# EAGLE library part CON-OMNETICS-A79016-001 (library con-omnetics)
18 Position Dual Row Male Nano-Miniature (.025″/.64mm) Connector; Featuring 6 Guide Posts Holes and Horizontal Surface Mount Tails
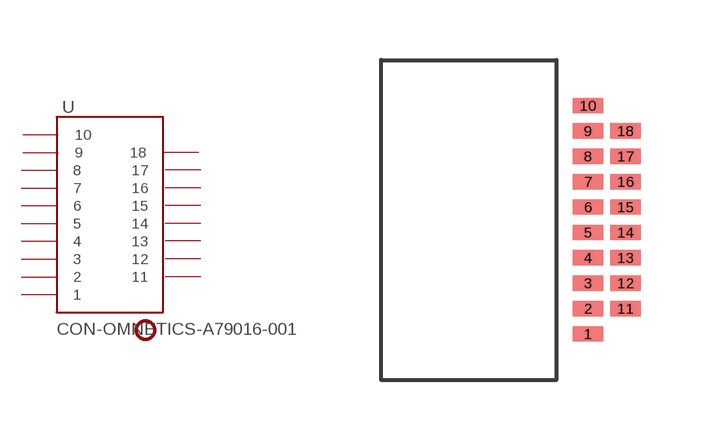
[diagram p1: symbol with the pads of CON-OMNETICS-A79016-001; footprint CON-OMNETICS-A79016-001]

Designator prefix U

## CON-OMNETICS-A79016-001  [CON-OMNETICS-A79016-001]
1  1
2  2
3  3
4  4
5  5
6  6
7  7
8  8
9  9
10  10
11  11
12  12
13  13
14  14
15  15
16  16
17  17
18  18

## Footprint CON-OMNETICS-A79016-001 (pad centres in mm)
Omnectics 18 pin surface mount connector A79016-001
smd 0.762 x 0.381: 1 1.88,-2.857; 2 1.88,-2.223; 3 1.88,-1.587; 4 1.88,-0.953; 5 1.88,-0.318; 6 1.88,0.318; 7 1.88,0.953; 8 1.88,1.587; 9 1.88,2.223; 10 1.88,2.857; 11 2.819,-2.223; 12 2.819,-1.587; 13 2.819,-0.953; 14 2.819,-0.318; 15 2.819,0.318; 16 2.819,0.953; 17 2.819,1.587; 18 2.819,2.223